# Altium footprint library DPAK_TO252-3_SC63_M.PcbLib: 1 footprints
Each footprint in its own frame and in the unit in brackets; x right, y up, seen from the top. Pads: shape width x height; smd on the part's side, far side on the other; paste and mask are expansions set on the pad; w line width, h text height; cw(c..) or ccw(c..) is an arc to the next point about the centre after c.
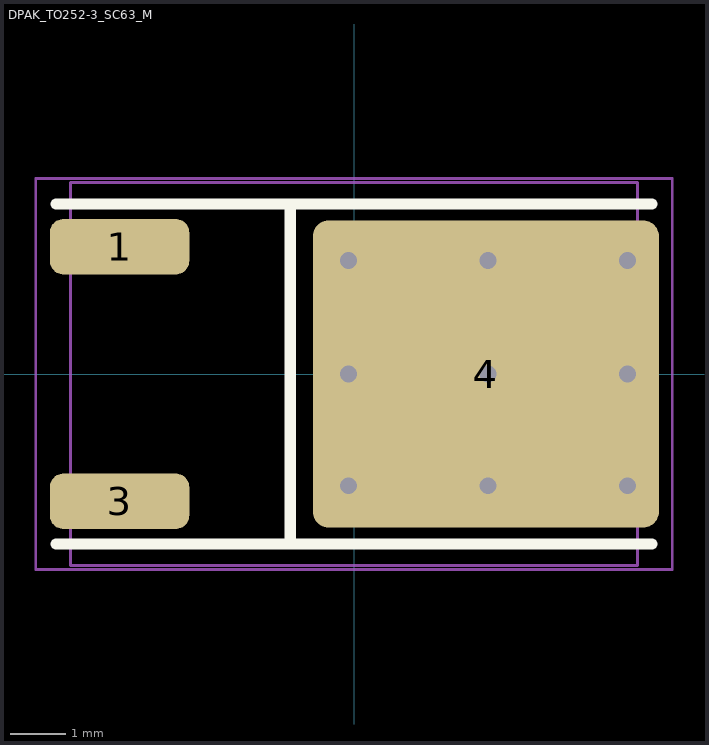
[diagram p0: the footprint, top view; thin cyan lines are the x and y axes]

## DPAK_TO252-3_SC63_M [mm] "D-PAK, 3-Pads+1-heatsink, Body 6,20x6,60mm (max), IPC Medium Density"
height 2.4
pads (3):
  rrect50% 2.5x1 smd: 1(-4.2,2.28) 3(-4.2,-2.28)
  rrect10% 6.2x5.5 smd paste-20: 4(2.362,0)
via 4.9,0 diameter 0.8 hole 0.3
via 4.9,2.032 diameter 0.8 hole 0.3
via 4.9,-2 diameter 0.8 hole 0.3
via 2.4,2.032 diameter 0.8 hole 0.3
via 2.4,0 diameter 0.8 hole 0.3
via 2.4,-2 diameter 0.8 hole 0.3
via -0.1,0 diameter 0.8 hole 0.3
via -0.1,2.032 diameter 0.8 hole 0.3
via -0.1,-2 diameter 0.8 hole 0.3
Top Overlay:
  lines w0.2: -5.334,-3.048 5.334,-3.048 ; -5.334,3.048 5.334,3.048 ; -1.143,-3.048 -1.143,3.048
Top Paste:
  region: 4.65,-2.05 4.65,-0.15 2.75,-0.15 2.75,-2.05
  region: 4.65,0.15 4.65,2.05 2.75,2.05 2.75,0.15
  region: 2.15,-2.05 2.15,-0.15 0.25,-0.15 0.25,-2.05
  region: 2.15,0.15 2.15,2.05 0.25,2.05 0.25,0.15
Top Assembly:
  lines w0.05: -5.08,-3.429 5.08,-3.429 5.08,3.429 -5.08,3.429 -5.08,-3.429
Top Courtyard:
  lines w0.05: -0.635,0 0.635,0 ; 0,-0.635 0,0.635 ; -5.7,-3.5 5.7,-3.5 5.7,3.5 -5.7,3.5 -5.7,-3.5
3D body "User Library-DPAK_TO-252AA.step": height 2.37, standoff -0.03, extent -5.08,-3.367 5.02,3.367